# EAGLE library part LBA710 (library LBA710)
LBA710 60V Dual Single-Pole OptoMOS® Relay Normally Open & Normally Closed
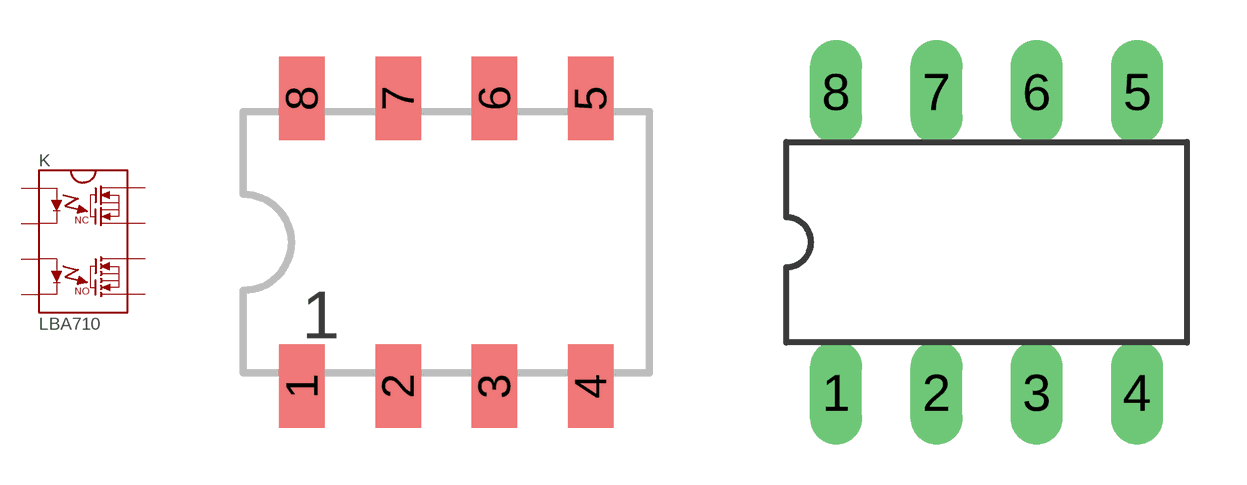
[diagram p0: symbol with the pads of DIP8; footprints DIP8, DIL8]

Designator prefix K

## LBA710S  [DIP8]
1  NC-CONTROL+  pas
2  NC-CONTROL-  pas
3  NO-CONTROL+  pas
4  NO-CONTROL-  pas
5  NO-OUT2  pas
6  NO-OUT1  pas
7  NC-OUT2  pas
8  NC-OUT1  pas

## LBA710  [DIL8]
Pads as for DIP8

## Footprint DIP8 (pad centres in mm)
SMD DIL08 Imported from the smd-ipc library
smd 1.2 x 2.2: 1 -3.81,-3.8; 2 -1.27,-3.8; 3 1.27,-3.8; 4 3.81,-3.8; 5 3.81,3.8; 6 1.27,3.8; 7 -1.27,3.8; 8 -3.81,3.8

## Footprint DIL8 (pad centres in mm)
Dual In Line Imported from the microchip library
drill 0.813 long: 1 -3.81,-3.81; 2 -1.27,-3.81; 3 1.27,-3.81; 4 3.81,-3.81; 5 3.81,3.81; 6 1.27,3.81; 7 -1.27,3.81; 8 -3.81,3.81